# EAGLE library part PIC16F1827-I/P (library 2024-12-21_01-08-42_Library)
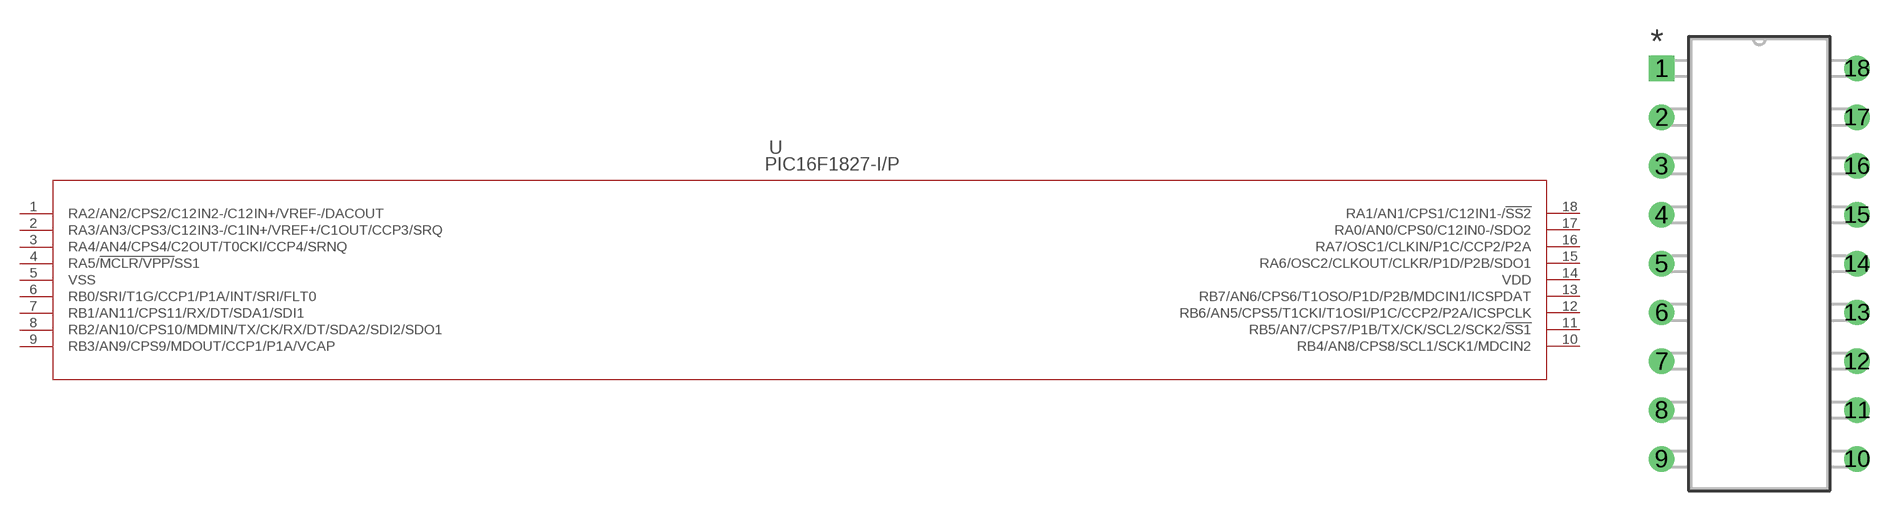
[diagram p0: symbol with the pads of PIC16F1827-X/P_MCH; footprint PIC16F1827-X/P_MCH]

Designator prefix U

## PIC16F1827-I/PPIC16F1827-X/P_MCH (Copyright: Copyright (C) 2024 Ultra Librarian. All rights reserved.; Manufacturer_Part_Number: PIC16F1827-I/P; Mfr_Name: Microchip)  [PIC16F1827-X/P_MCH]
1  RA2/AN2/CPS2/C12IN2-/C12IN+/VREF-/DACOUT
2  RA3/AN3/CPS3/C12IN3-/C1IN+/VREF+/C1OUT/CCP3/SRQ
3  RA4/AN4/CPS4/C2OUT/T0CKI/CCP4/SRNQ
4  RA5/!MCLR/VPP/!SS1
5  VSS  pwr
6  RB0/SRI/T1G/CCP1/P1A/INT/SRI/FLT0
7  RB1/AN11/CPS11/RX/DT/SDA1/SDI1
8  RB2/AN10/CPS10/MDMIN/TX/CK/RX/DT/SDA2/SDI2/SDO1
9  RB3/AN9/CPS9/MDOUT/CCP1/P1A/VCAP
10  RB4/AN8/CPS8/SCL1/SCK1/MDCIN2
11  RB5/AN7/CPS7/P1B/TX/CK/SCL2/SCK2/!SS1
12  RB6/AN5/CPS5/T1CKI/T1OSI/P1C/CCP2/P2A/ICSPCLK
13  RB7/AN6/CPS6/T1OSO/P1D/P2B/MDCIN1/ICSPDAT
14  VDD  pwr
15  RA6/OSC2/CLKOUT/CLKR/P1D/P2B/SDO1
16  RA7/OSC1/CLKIN/P1C/CCP2/P2A
17  RA0/AN0/CPS0/C12IN0-/SDO2
18  RA1/AN1/CPS1/C12IN1-/!SS2

## Footprint PIC16F1827-X/P_MCH (pad centres in mm)
drill 0.813 pad 1.321 square: 1 0,0
drill 0.813 pad 1.321 round: 2 0,-2.54; 3 0,-5.08; 4 0,-7.62; 5 0,-10.16; 6 0,-12.7; 7 0,-15.24; 8 0,-17.78; 9 0,-20.32; 10 10.16,-20.32; 11 10.16,-17.78; 12 10.16,-15.24; 13 10.16,-12.7; 14 10.16,-10.16; 15 10.16,-7.62; 16 10.16,-5.08; 17 10.16,-2.54; 18 10.16,0